# Altium schematic symbol library 2019-06-04_00-23-30.SchLib: 2 symbols
Pins are listed as number, name and electrical type; pins without a type are passive.

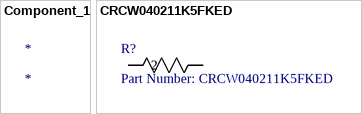
[diagram p0: symbols Component_1 to CRCW040211K5FKED]

## Component_1
designator *

## CRCW040211K5FKED
designator R?, comment Part Number: CRCW040211K5FKED
No Description Available; Vendor: Vishay; Built_By: EMA_UL_Team; Manufacturer_Part_Number: CRCW040211K5FKED; Copyright: Copyright (C) 2018 Accelerated Designs. All rights reserved; RefDes: RefDes; Type: DEV; Value: Value
footprint RES_CRCW_0402
pins: 1, 2